# EAGLE library part 61001821821 (library Wurth_Elektronik2)
WR-PHD 2.54mm Dual SMT Socket Header, 18 Pins =>Code : Con_BTB_SHD_2.54_1_SMT_61001821821 <http://katalog.we-online.de/media/images/eican/Con_BTB_SHD_2.54_1_SMT_6100xx21821_pf2.jpg> Details see: http://katalog.we-online.de/en/em/610_0xx_218_21 Created 2014-05-30, Karrer Zheng 2014 (C) Würth Elektronik
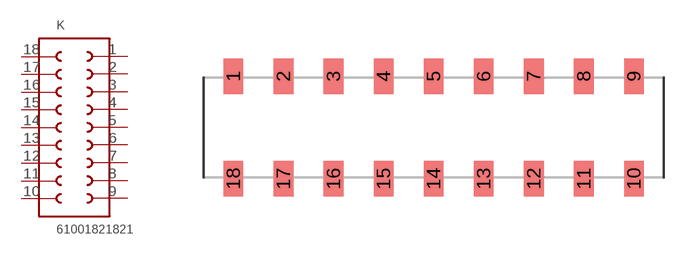
[diagram p218: symbol with the pads of 61001821821; footprint 61001821821]

Designator prefix K

## 61001821821  [61001821821]
1  1  pas
2  2  pas
3  3  pas
4  4  pas
5  5  pas
6  6  pas
7  7  pas
8  8  pas
9  9  pas
10  10  pas
11  11  pas
12  12  pas
13  13  pas
14  14  pas
15  15  pas
16  16  pas
17  17  pas
18  18  pas

## Footprint 61001821821 (pad centres in mm)
WR-PHD 2.54mm Dual SMT Socket Header, 18 Pins
smd 1 x 1.8: 1 -12.7,2.6; 2 -10.16,2.6; 3 -7.62,2.6; 4 -5.08,2.6; 5 -2.54,2.6; 6 0,2.6; 7 2.54,2.6; 8 5.08,2.6; 9 7.62,2.6; 10 7.62,-2.6; 11 5.08,-2.6; 12 2.54,-2.6; 13 0,-2.6; 14 -2.54,-2.6; 15 -5.08,-2.6; 16 -7.62,-2.6; 17 -10.16,-2.6; 18 -12.7,-2.6